# EAGLE library part SHT21 (library samuel)
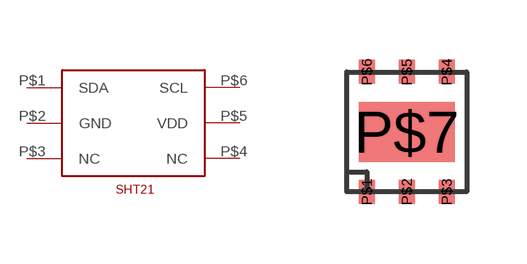
[diagram p12: symbol with the pads of DFN6; footprint DFN6]

Designator prefix -

## SHT21  [DFN6]
P$1  SDA
P$2  GND
P$3  NC
P$4  NC
P$5  VDD
P$6  SCL

## Footprint DFN6 (pad centres in mm)
smd 0.4 x 0.6: P$1 -1,-1.5; P$2 0,-1.5; P$3 1,-1.5; P$4 1,1.5; P$5 0,1.5; P$6 -1,1.5
smd 2.4 x 1.5: P$7 0,0